# Altium footprint library MyLibrary.PcbLib: 365 footprints (part 17 of 23)
Each footprint in its own frame and in the unit in brackets; x right, y up, seen from the top. Pads: shape width x height; smd on the part's side, far side on the other; paste and mask are expansions set on the pad; w line width, h text height; cw(c..) or ccw(c..) is an arc to the next point about the centre after c.
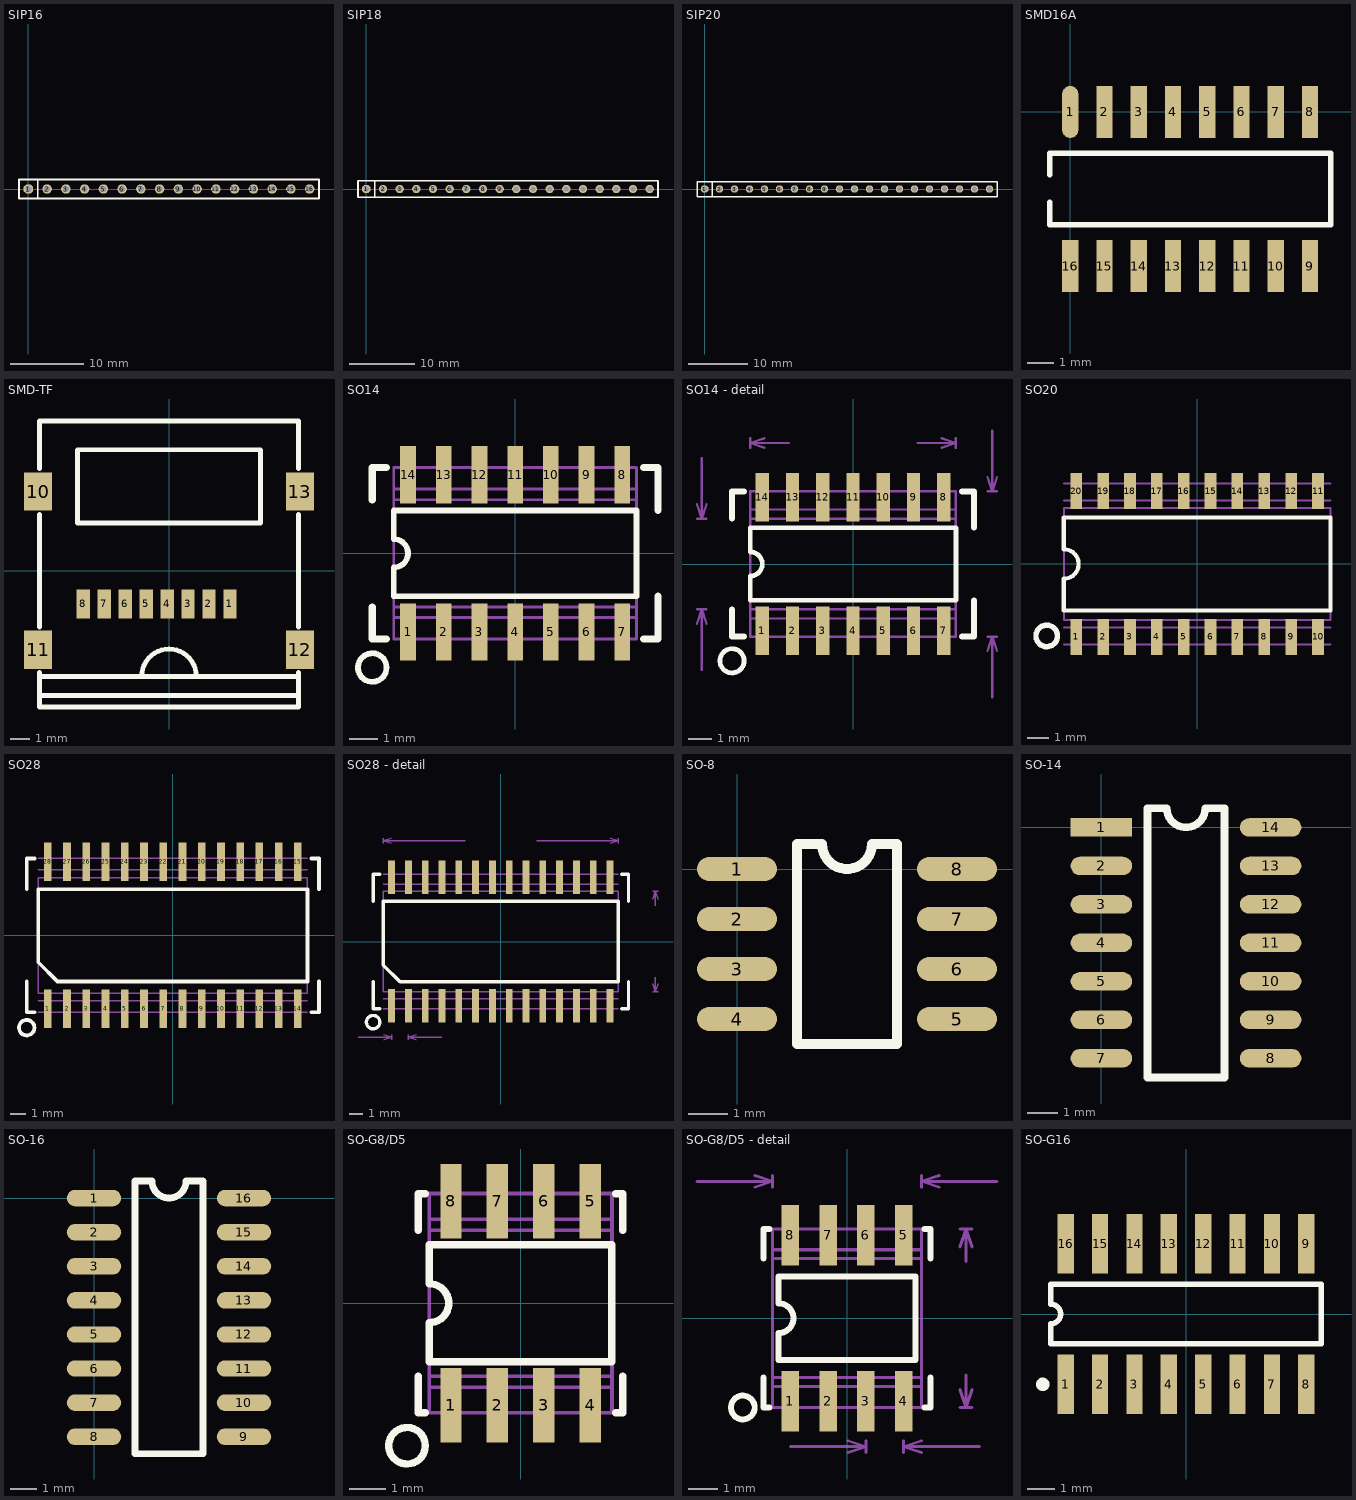
[diagram p16: the footprints below, top view; thin cyan lines are the x and y axes]

## SIP16 [mil]
pads (16):
  oct 50x50 hole 32: 1(0,0)
  round 50 hole 32: 2(100,0) 3(200,0) 4(300,0) 5(400,0) 6(500,0) 7(600,0) 8(700,0) 9(800,0) 10(900,0) 11(1000,0) 12(1100,0) 13(1200,0) 14(1300,0) 15(1400,0) 16(1500,0)
Top Overlay:
  lines w10: 50,-50 50,50 ; -50,-50 1550,-50 1550,50 -50,50 -50,-50

## SIP18 [mil]
pads (18):
  oct 50x50 hole 32: 1(0,0)
  round 50 hole 32: 2(100,0) 3(200,0) 4(300,0) 5(400,0) 6(500,0) 7(600,0) 8(700,0) 9(800,0) 10(900,0) 11(1000,0) 12(1100,0) 13(1200,0) 14(1300,0) 15(1400,0) 16(1500,0) 17(1600,0) 18(1700,0)
Top Overlay:
  lines w10: 50,-50 50,50 ; -50,-50 -50,50 1750,50 1750,-50 -50,-50

## SIP20 [mil]
pads (20):
  oct 50x50 hole 32: 1(0,0)
  round 50 hole 32: 2(100,0) 3(200,0) 4(300,0) 5(400,0) 6(500,0) 7(600,0) 8(700,0) 9(800,0) 10(900,0) 11(1000,0) 12(1100,0) 13(1200,0) 14(1300,0) 15(1400,0) 16(1500,0) 17(1600,0) 18(1700,0) 19(1800,0) 20(1900,0)
Top Overlay:
  lines w10: 50,-50 50,50 ; -50,-50 -50,50 1950,50 1950,-50 -50,-50

## SMD16A [mil]
pads (16):
  oval 24x76 smd: 1(0,0)
  rect 24x76 smd: 2(50,0) 3(100,0) 4(150,0) 5(200,0) 6(250,0) 7(300,0) 8(350,0) 9(350,-225) 10(300,-225) 11(250,-225) 12(200,-225) 13(150,-225) 14(100,-225) 15(50,-225) 16(0,-225)
Top Overlay:
  lines w8: -30,-132 -30,-165 380,-165 380,-60 -30,-60 -30,-92
Bottom Overlay:
  lines w8: -30,-132 ccw(c-30,-112) -30,-92

## SMD-TF [mm]
pads (12):
  rect 0.7x1.5 smd: 1(3.2,-1.75) 2(2.1,-1.75) 3(1,-1.75) 4(-0.1,-1.75) 5(-1.2,-1.75) 6(-2.3,-1.75) 7(-3.4,-1.75) 8(-4.5,-1.75)
  rect 1.45x2 smd: 10(-6.875,4.15) 11(-6.875,-4.15) 12(6.875,-4.15) 13(6.875,4.15)
Top Overlay:
  lines w0.254: -6.8,-6.55 6.8,-6.55 ; -6.8,-5.55 6.8,-5.55 ; -6.8,-5.35 -6.8,-7.15 6.8,-7.15 6.8,-5.35 ; -6.8,-2.95 -6.8,2.95 ; -6.8,5.35 -6.8,7.85 6.8,7.85 6.8,5.35 ; -4.8,6.326 -4.8,2.5 4.8,2.5 4.8,6.326 ; -4.8,6.35 4.8,6.35 ; -1.437,-5.55 cw(c0,-5.55) 1.437,-5.55 ; 6.8,-2.95 6.8,2.95

## SO14 [mil]
pads (14):
  rect 22x80 smd: 1(-150,-110) 2(-100,-110) 3(-50,-110) 4(0,-110) 5(50,-110) 6(100,-110) 7(150,-110) 8(150,110) 9(100,110) 10(50,110) 11(0,110) 12(-50,110) 13(-100,110) 14(-150,110)
Top Overlay:
  circle w8: c-200,-160 r20
  lines w8: -170,-60 -170,-20 ccw(c-170,0) -170,20 -170,60 170,60 170,-60 -170,-60
  lines w10: -200,-75 -200,-120 -180,-120 ; -200,75 -200,120 -180,120 ; 180,-120 200,-120 200,-60 ; 180,120 200,120 200,60
Mechanical 1:
  lines w4: -170,-90 170,-90 ; -170,-75 170,-75 ; -170,75 170,75 ; -170,90 170,90 ; -170,-120 170,-120 170,120 -170,120 -170,-120

## SO14 - detail [mil]
pads (14):
  rect 22x80 smd: 1(-150,-110) 2(-100,-110) 3(-50,-110) 4(0,-110) 5(50,-110) 6(100,-110) 7(150,-110) 8(150,110) 9(100,110) 10(50,110) 11(0,110) 12(-50,110) 13(-100,110) 14(-150,110)
Top Overlay:
  circle w8: c-200,-160 r20
  lines w8: -170,-60 170,-60 170,60 -170,60 -170,20 cw(c-170,0) -170,-20 -170,-60
  lines w10: -200,-75 -200,-120 -180,-120 ; -200,75 -200,120 -180,120 ; 180,-120 200,-120 200,-60 ; 180,120 200,120 200,60
Mechanical 1:
  lines w3.94: -257.87,-98.62 -250,-75 ; -257.87,-75 -242.13,-75 ; -257.87,75 -242.13,75 ; -257.87,98.62 -250,75 ; -250,-175 -250,-75 ; -250,175 -250,75 ; -242.13,-98.62 -250,-75 ; -242.13,98.62 -250,75 ; -170,192.13 -170,207.87 ; -146.38,192.13 -170,200 ; -146.38,207.87 -170,200 ; -106.43,200 -170,200 ; 106.43,200 170,200 ; 146.38,192.13 170,200 ; 146.38,207.87 170,200 ; 170,192.13 170,207.87 ; 222.13,-143.62 230,-120 ; 222.13,-120 237.87,-120 ; 222.13,120 237.87,120 ; 222.13,143.62 230,120 ; 230,-220 230,-120 ; 230,220 230,120 ; 237.87,-143.62 230,-120 ; 237.87,143.62 230,120
  lines w4: -170,-90 170,-90 ; -170,-75 170,-75 ; -170,75 170,75 ; -170,90 170,90 ; -170,-120 -170,120 170,120 170,-120 -170,-120
  text "150 (mil)" at -270,-90 h23.62
  text "240 (mil)" at 240,-95 h23.62
  text "340 (mil)" at -96.43,184.26 h23.62

## SO20 [mm]
pads (20):
  rect 0.55x1.7 smd: 1(-5.715,-3.45) 2(-4.445,-3.45) 3(-3.175,-3.45) 4(-1.905,-3.45) 5(-0.635,-3.45) 6(0.635,-3.45) 7(1.905,-3.45) 8(3.175,-3.45) 9(4.445,-3.45) 10(5.715,-3.45) 11(5.715,3.45) 12(4.445,3.45) 13(3.175,3.45) 14(1.905,3.45) 15(0.635,3.45) 16(-0.635,3.45) 17(-1.905,3.45) 18(-3.175,3.45) 19(-4.445,3.45) 20(-5.715,3.45)
Top Overlay:
  circle w0.254: c-7.108,-3.4 r0.508
  lines w0.2: -6.3,-2.2 -6.3,-0.7 ccw(c-6.3,0) -6.3,0.7 -6.3,2.2 6.3,2.2 6.3,-2.2 -6.3,-2.2
Mechanical 1:
  lines w0.1: -6.3,-3.8 6.3,-3.8 ; -6.3,-3 6.3,-3 ; -6.3,3 6.3,3 ; -6.3,3.8 6.3,3.8 ; -6.3,-2.65 -6.3,2.65 6.3,2.65 6.3,-2.65 -6.3,-2.65

## SO28 [mil]
pads (28):
  rect 20x100 smd: 1(-325,-191.1) 2(-275,-191.1) 3(-225,-191.1) 4(-175,-191.1) 5(-125,-191.1) 6(-75,-191.1) 7(-25,-191.1) 8(25,-191.1) 9(75,-191.1) 10(125,-191.1) 11(175,-191.1) 12(225,-191.1) 13(275,-191.1) 14(325,-191.1) 15(325,191.1) 16(275,191.1) 17(225,191.1) 18(175,191.1) 19(125,191.1) 20(75,191.1) 21(25,191.1) 22(-25,191.1) 23(-75,191.1) 24(-125,191.1) 25(-175,191.1) 26(-225,191.1) 27(-275,191.1) 28(-325,191.1)
Top Overlay:
  circle w10: c-380,-240 r20
  lines w10: -380,-120 -380,-200 -360,-200 ; -380,120 -380,200 -360,200 ; 360,-200 380,-200 380,-120 ; 360,200 380,200 380,120 ; -350,-70 -350,120 350,120 350,-120 -300,-120 -350,-70
Mechanical 1:
  lines w3.94: -350,-200 350,-200 ; -350,-170 350,-170 ; -350,170 350,170 ; -350,200 350,200 ; -350,-150 -350,150 350,150 350,-150 -350,-150

## SO28 - detail [mil]
pads (28):
  rect 20x100 smd: 1(-325,-191.1) 2(-275,-191.1) 3(-225,-191.1) 4(-175,-191.1) 5(-125,-191.1) 6(-75,-191.1) 7(-25,-191.1) 8(25,-191.1) 9(75,-191.1) 10(125,-191.1) 11(175,-191.1) 12(225,-191.1) 13(275,-191.1) 14(325,-191.1) 15(325,191.1) 16(275,191.1) 17(225,191.1) 18(175,191.1) 19(125,191.1) 20(75,191.1) 21(25,191.1) 22(-25,191.1) 23(-75,191.1) 24(-125,191.1) 25(-175,191.1) 26(-225,191.1) 27(-275,191.1) 28(-325,191.1)
Top Overlay:
  circle w10: c-380,-240 r20
  lines w10: -380,-120 -380,-200 -360,-200 ; -380,120 -380,200 -360,200 ; 360,-200 380,-200 380,-120 ; 360,200 380,200 380,120 ; -350,-70 -350,120 350,120 350,-120 -300,-120 -350,-70
Mechanical 1:
  lines w3.94: -425,-285 -325,-285 ; -350,-200 350,-200 ; -350,-170 350,-170 ; -350,170 350,170 ; -350,200 350,200 ; -350,292.13 -350,307.87 ; -348.62,-292.87 -325,-285 ; -348.62,-277.13 -325,-285 ; -326.38,292.13 -350,300 ; -326.38,307.87 -350,300 ; -325,-292.87 -325,-277.13 ; -275,-292.87 -275,-277.13 ; -251.38,-292.87 -275,-285 ; -251.38,-277.13 -275,-285 ; -175,-285 -275,-285 ; -106.43,300 -350,300 ; 106.43,300 350,300 ; 326.38,292.13 350,300 ; 326.38,307.87 350,300 ; 350,292.13 350,307.87 ; 452.13,-150 467.87,-150 ; 452.13,-126.38 460,-150 ; 452.13,126.38 460,150 ; 452.13,150 467.87,150 ; 460,-106.43 460,-150 ; 460,106.43 460,150 ; 467.87,-126.38 460,-150 ; 467.87,126.38 460,150 ; -350,-150 -350,150 350,150 350,-150 -350,-150
  text "50 (mil)" at -384.62,-347.98 h23.62
  text "700 (mil)" at -96.43,284.26 h23.62
  text "300 (mil)" at 475.74,-96.43 h23.62

## SO-8 [mil]
pads (8):
  oval 80x24 smd: 1(0,0) 2(0,-50) 3(0,-100) 4(0,-150) 5(220,-150) 6(220,-100) 7(220,-50) 8(220,0)
Top Overlay:
  lines w10: 60,-175 60,25 85,25 ccw(c110,25) 135,25 160,25 160,-175 60,-175

## SO-14 [mil]
pads (14):
  rect 80x24 smd: 1(0,0)
  oval 80x24 smd: 2(0,-50) 3(0,-100) 4(0,-150) 5(0,-200) 6(0,-250) 7(0,-300) 8(220,-300) 9(220,-250) 10(220,-200) 11(220,-150) 12(220,-100) 13(220,-50) 14(220,0)
Top Overlay:
  lines w10: 60,-325 160,-325 160,25 135,25 cw(c110,25) 85,25 60,25 60,-325

## SO-16 [mil]
pads (16):
  oval 80x24 smd: 1(0,0) 2(0,-50) 3(0,-100) 4(0,-150) 5(0,-200) 6(0,-250) 7(0,-300) 8(0,-350) 9(220,-350) 10(220,-300) 11(220,-250) 12(220,-200) 13(220,-150) 14(220,-100) 15(220,-50) 16(220,0)
Top Overlay:
  lines w10: 60,-375 60,25 85,25 ccw(c110,25) 135,25 160,25 160,-375 60,-375

## SO-G8/D5 [mil]
pads (8):
  rect 23x80 smd: 1(-75,-110) 2(-25,-110) 3(25,-110) 4(75,-110) 5(75,110) 6(25,110) 7(-25,110) 8(-75,110)
Top Overlay:
  circle w7.87: c-122.36,-153.54 r19.68
  lines w7.87: -110.24,-78.74 -110.24,-118.11 -102.36,-118.11 ; -110.24,78.74 -110.24,118.11 -102.36,118.11 ; 102.36,-118.11 110.24,-118.11 110.24,-78.74 ; 102.36,118.11 110.24,118.11 110.24,78.74
  lines w8: -98.42,-62.99 98.42,-62.99 98.42,62.99 -98.42,62.99 -98.42,21 cw(c-98.42,0) -98.42,-21 -98.42,-62.99
Mechanical 1:
  lines w4: -98.43,-90.55 98.43,-90.55 ; -98.43,-78.74 98.43,-78.74 ; -98.43,78.74 98.43,78.74 ; -98.43,90.55 98.43,90.55 ; -98.43,-118.11 -98.43,118.11 98.43,118.11 98.43,-118.11 -98.43,-118.11

## SO-G8/D5 - detail [mil]
pads (8):
  rect 23x80 smd: 1(-75,-110) 2(-25,-110) 3(25,-110) 4(75,-110) 5(75,110) 6(25,110) 7(-25,110) 8(-75,110)
Top Overlay:
  circle w7.87: c-137.8,-118.11 r15.75
  lines w7.87: -110.24,-78.74 -110.24,-118.11 -102.36,-118.11 ; -110.24,78.74 -110.24,118.11 -102.36,118.11 ; 102.36,-118.11 110.24,-118.11 110.24,-78.74 ; 102.36,118.11 110.24,118.11 110.24,78.74
  lines w8: -90.55,-55.12 -90.55,-19.68 ccw(c-90.55,0) -90.55,19.68 -90.55,55.12 90.55,55.12 90.55,-55.12 -90.55,-55.12
Mechanical 1:
  lines w3.94: -198.43,181.1 -98.43,181.1 ; -122.05,173.23 -98.43,181.1 ; -122.05,188.98 -98.43,181.1 ; -98.43,173.23 -98.43,188.98 ; -75,-170 25,-170 ; 1.38,-177.87 25,-170 ; 1.38,-162.13 25,-170 ; 25,-177.87 25,-162.13 ; 75,-177.87 75,-162.13 ; 98.43,173.23 98.43,188.98 ; 98.62,-177.87 75,-170 ; 98.62,-162.13 75,-170 ; 122.05,173.23 98.43,181.1 ; 122.05,188.98 98.43,181.1 ; 149.61,-118.11 165.35,-118.11 ; 149.61,-94.49 157.48,-118.11 ; 149.61,94.49 157.48,118.11 ; 149.61,118.11 165.35,118.11 ; 157.48,-74.94 157.48,-118.11 ; 157.48,74.94 157.48,118.11 ; 165.35,-94.49 157.48,-118.11 ; 165.35,94.49 157.48,118.11 ; 175,-170 75,-170 ; 198.43,181.1 98.43,181.1
  lines w4: -98.43,-90.55 98.43,-90.55 ; -98.43,-78.74 98.43,-78.74 ; -98.43,78.74 98.43,78.74 ; -98.43,90.55 98.43,90.55 ; -98.43,-118.11 98.43,-118.11 98.43,118.11 -98.43,118.11 -98.43,-118.11
  text "1.27 (mm)" at -46.43,-232.98 h23.62
  text "5 (mm)" at -62.99,169.29 h23.62
  text "6 (mm)" at 173.22,-64.94 h23.62

## SO-G16 [mm]
pads (16):
  rect 0.6x2.2 smd: 1(-4.445,-2.6) 2(-3.175,-2.6) 3(-1.905,-2.6) 4(-0.635,-2.6) 5(0.635,-2.6) 6(1.905,-2.6) 7(3.175,-2.6) 8(4.445,-2.6) 9(4.445,2.6) 10(3.175,2.6) 11(1.905,2.6) 12(0.635,2.6) 13(-0.635,2.6) 14(-1.905,2.6) 15(-3.175,2.6) 16(-4.445,2.6)
Top Overlay:
  circle w0.25: c-5.295,-2.6 r0.125
  lines w0.2: -5,-1.1 5,-1.1 5,1.1 -5,1.1 -5,0.367 cw(c-5,0) -5,-0.367 -5,-1.1